# EAGLE library part KEYSTON_ELECTRONICS_4593 (library Ernest_Connectors)
Keystone Electronics 4593 socket.
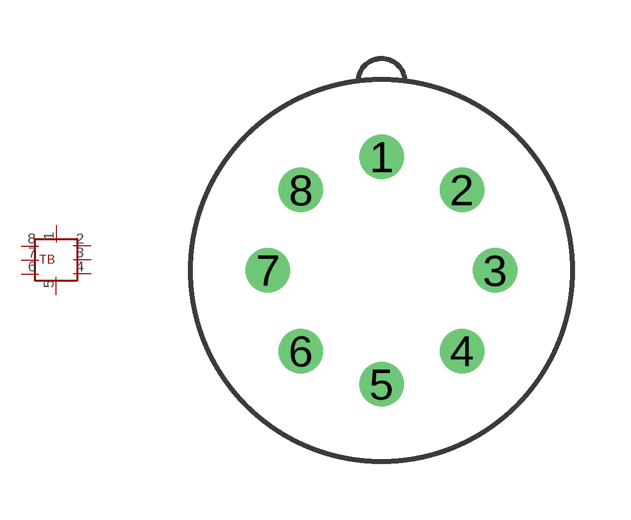
[diagram p2: symbol with the pads of KEYSTON_ELECTRONICS_4593; footprint KEYSTON_ELECTRONICS_4593]

Designator prefix TB

## KEYSTON_ELECTRONICS_4593  [KEYSTON_ELECTRONICS_4593]
1  1
2  2
3  3
4  4
5  5
6  6
7  7
8  8

## Footprint KEYSTON_ELECTRONICS_4593 (pad centres in mm)
Footprint for Keystone Electronics 4593 socket
drill 0.635 pad 1.016: 1 0,2.92; 2 2.07,2.07; 3 2.92,0; 4 2.07,-2.07; 5 0,-2.92; 6 -2.07,-2.07; 7 -2.92,0; 8 -2.07,2.07